# Altium footprint library NXP_Motor_Controllers.PcbLib: 1 footprints
Each footprint in its own frame and in the unit in brackets; x right, y up, seen from the top. Pads: shape width x height; smd on the part's side, far side on the other; paste and mask are expansions set on the pad; w line width, h text height; cw(c..) or ccw(c..) is an arc to the next point about the centre after c.
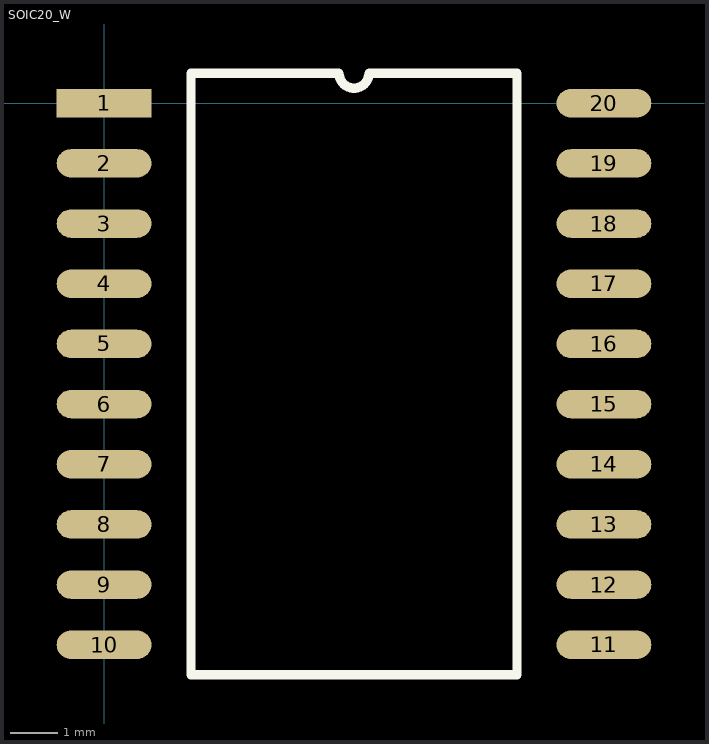
[diagram p0: the footprint, top view; thin cyan lines are the x and y axes]

## SOIC20_W [mm]
pads (20):
  rect 2x0.6 smd: 1(0,0)
  oval 2x0.6 smd: 2(0,-1.27) 3(0,-2.54) 4(0,-3.81) 5(0,-5.08) 6(0,-6.35) 7(0,-7.62) 8(0,-8.89) 9(0,-10.16) 10(0,-11.43) 11(10.55,-11.43) 12(10.55,-10.16) 13(10.55,-8.89) 14(10.55,-7.62) 15(10.55,-6.35) 16(10.55,-5.08) 17(10.55,-3.81) 18(10.55,-2.54) 19(10.55,-1.27) 20(10.55,0)
Top Overlay:
  lines w0.2: 1.835,-12.065 1.835,0.635 4.957,0.635 ccw(c5.275,0.635) 5.592,0.635 8.715,0.635 8.715,-12.065 1.835,-12.065